# Altium footprint library CUI_TB006-508-03BE.PcbLib: 1 footprints
Each footprint in its own frame and in the unit in brackets; x right, y up, seen from the top. Pads: shape width x height; smd on the part's side, far side on the other; paste and mask are expansions set on the pad; w line width, h text height; cw(c..) or ccw(c..) is an arc to the next point about the centre after c.
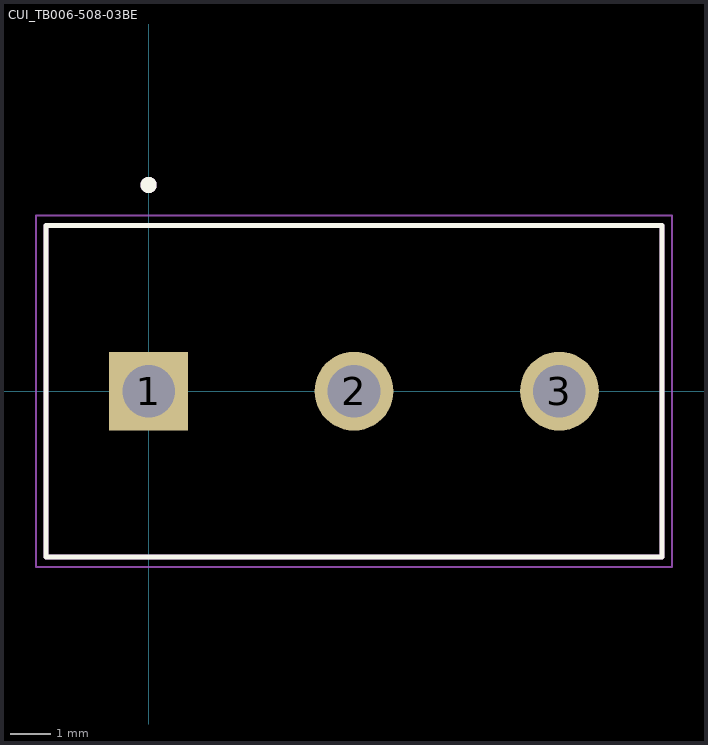
[diagram p0: the footprint, top view; thin cyan lines are the x and y axes]

## CUI_TB006-508-03BE [mm]
pads (3):
  rect 1.95x1.95 / inner round 1.95 / far side rect 1.95x1.95 hole 1.3: 1(0,0)
  round 1.95 hole 1.3: 2(5.08,0) 3(10.16,0)
Top Overlay:
  circle w0.2: c0,5.1 r0.1
  lines w0.127: -2.54,-4.1 -2.54,4.1 12.7,4.1 12.7,-4.1 -2.54,-4.1
Mechanical 13:
  circle w0.2: c0,5.1 r0.1
  lines w0.127: -2.54,-4.1 -2.54,4.1 12.7,4.1 12.7,-4.1 -2.54,-4.1
Mechanical 15:
  lines w0.05: -2.79,-4.35 12.95,-4.35 12.95,4.35 -2.79,4.35 -2.79,-4.35
3D body "step_temp.STEP": height 10, standoff -3.8, extent -3.04,-4.1 12.7,4.1